# Altium schematic symbol library tda1554q.SchLib: 6 symbols
Pins are listed as number, name and electrical type; pins without a type are passive.

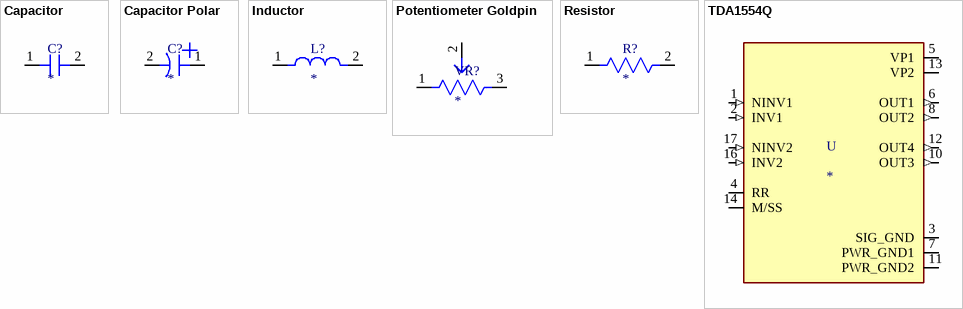
[diagram p0: symbols Capacitor to TDA1554Q]

## Capacitor
designator C?
footprint Capacitor 3x7mm
pins: 1, 2

## Capacitor Polar
designator C?
footprint Capacitor 13x21mm
footprint Capacitor 5x11mm
pins: 1, 2

## Inductor
designator L?
pins: 1, 2

## Potentiometer Goldpin
designator VR?
footprint Conector Goldpin 1x3
pins: 1, 2, 3

## Resistor
designator R?
footprint Resistor 0207 1/4W
pins: 1, 2

## TDA1554Q
designator U
Amplifier IC 2-Channel _Stereo_ or 4-Channel _Quad_ Class B DBS17P; MF: NXP USA; MP: TDA1554Q; Value: *; Availability: Unavailable; Package: SIP-17 NXP USA; Price: None; SnapEDA_Link: https://www.snapeda.com/parts/TDA1554Q/NXP%20USA%20Inc./view-part/762394/?ref=snap
footprint TO127P2400X460X1700-17
pins: 1 NINV1 (in), 2 INV1 (in), 3 SIG_GND (power), 4 RR, 5 VP1 (power), 6 OUT1 (out), 7 PWR_GND1 (power), 8 OUT2 (out), 10 OUT3 (out), 11 PWR_GND2 (power), 12 OUT4 (out), 13 VP2 (power), 14 M/SS, 16 INV2 (in), 17 NINV2 (in)